# Altium footprint library ZERORULERV2.PcbLib: 78 footprints (part 3 of 5)
Each footprint in its own frame and in the unit in brackets; x right, y up, seen from the top. Pads: shape width x height; smd on the part's side, far side on the other; paste and mask are expansions set on the pad; w line width, h text height; cw(c..) or ccw(c..) is an arc to the next point about the centre after c.
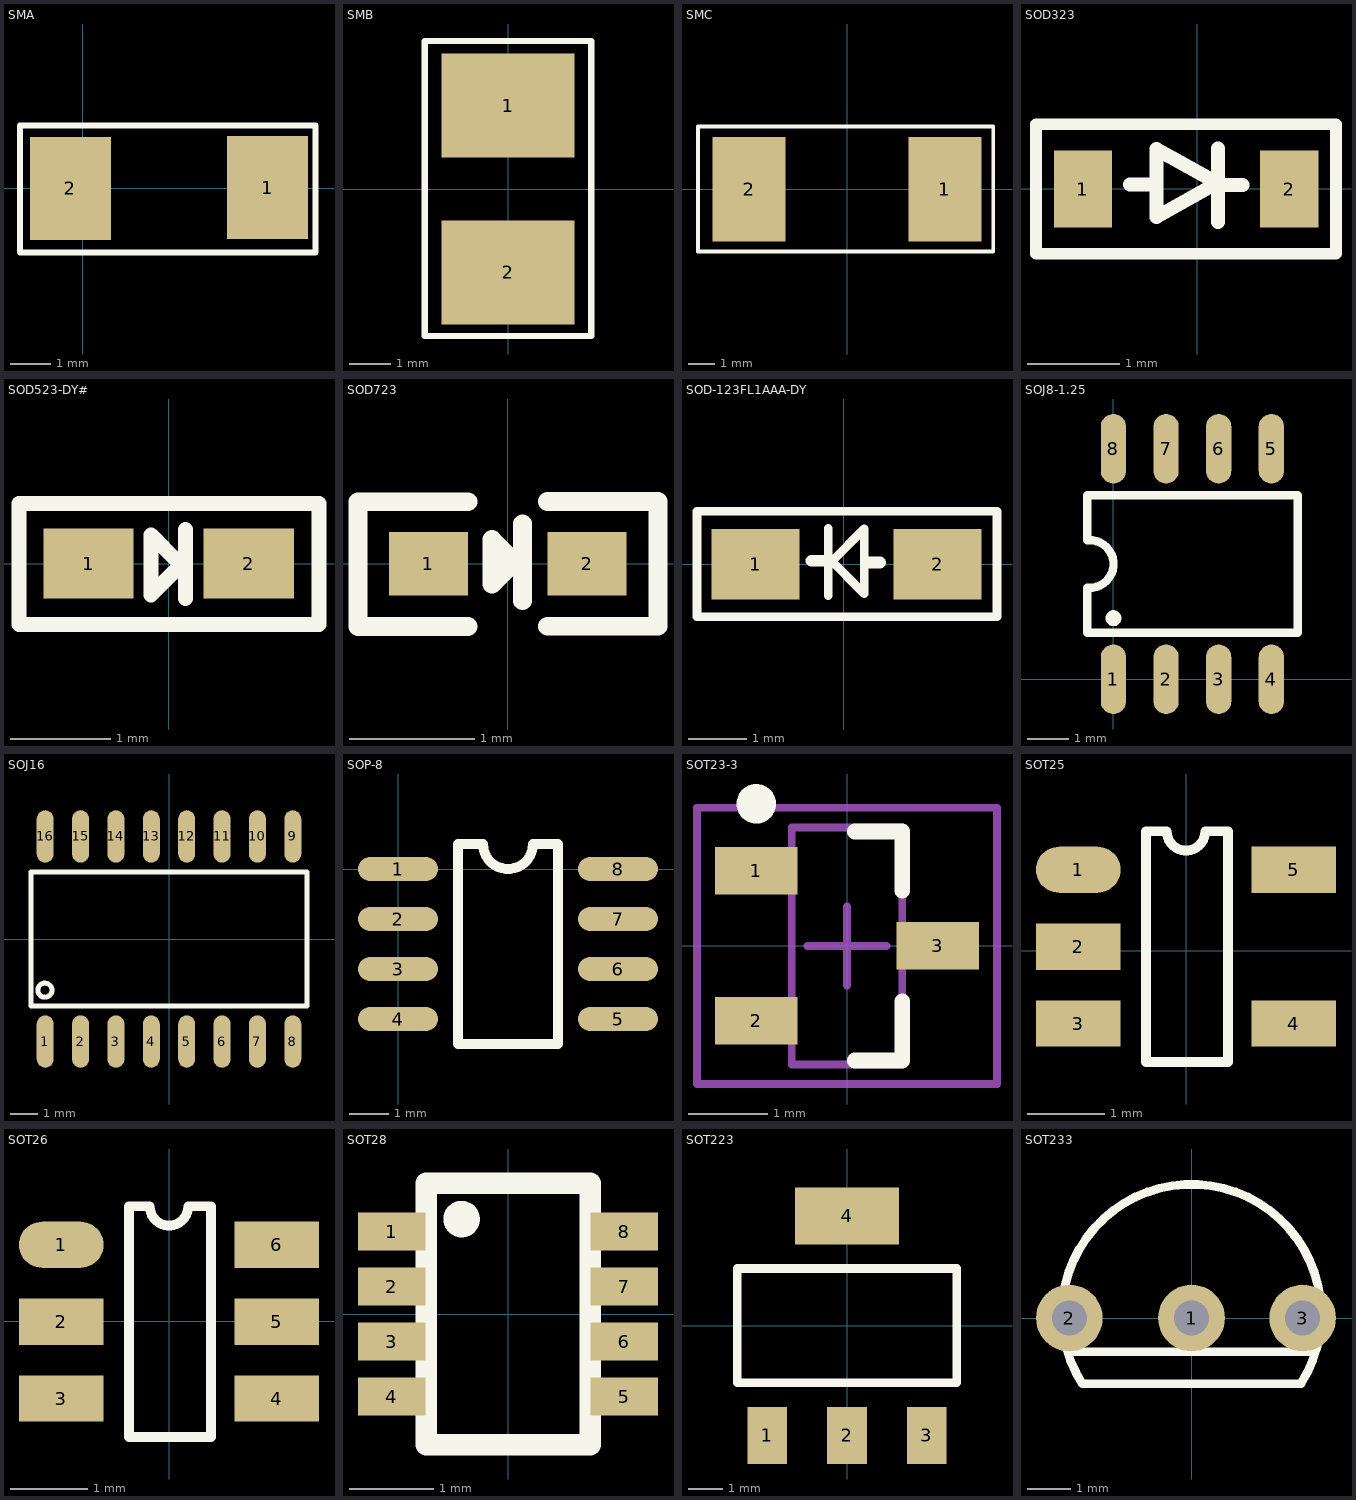
[diagram p2: the footprints below, top view; thin cyan lines are the x and y axes]

## SMA [mm]
height 2.2
pads (2):
  rect 2x2.54 smd: 1(4.562,0.022) 2(-0.297,0.001)
Top Overlay:
  lines w0.15: -1.539,-1.581 5.744,-1.581 5.744,1.552 -1.539,1.552 -1.539,-1.581

## SMB [mm]
pads (2):
  rect 3.2x2.5 smd: 1(0,2) 2(0,-2)
Top Overlay:
  lines w0.15: -2,-3.529 2,-3.529 2,3.552 -2,3.552 -2,-3.529

## SMC [mm]
pads (2):
  rect 2.8x4 smd: 1(3.746,0) 2(-3.746,0)
Top Overlay:
  lines w0.15: -5.703,-2.397 5.602,-2.397 5.602,2.402 -5.703,2.402 -5.703,-2.397

## SOD323 [mm]
height 1.2
pads (2):
  rect 0.63x0.83 smd: 1(-1.235,-0.001) 2(0.995,-0.001)
Top Overlay:
  lines w0.127: -1.742,-0.701 -1.742,0.699 1.499,0.699 1.499,-0.701 -1.742,-0.701
  lines w0.15: -0.726,0.048 -0.515,0.048 ; -0.442,0.429 0.213,0.066 -0.442,-0.302 -0.442,0.433 ; 0.223,-0.356 0.223,0.439 ; 0.288,0.04 0.487,0.04

## SOD523-DY# [mm]
pads (2):
  rect 0.9x0.7 smd: 1(-0.8,0) 2(0.8,0)
Top Overlay:
  lines w0.15: 0.086,0.024 -0.175,0.286 -0.175,-0.311 0.116,-0.019 ; 0.167,-0.348 0.167,0.341 ; -1.495,-0.606 1.502,-0.606 1.502,-0.606 1.502,0.6 1.502,0.6 -1.495,0.6 ; -1.495,-0.606 -1.495,-0.606 ; -1.495,-0.606 -1.495,0.6 ; -1.495,0.6 -1.495,0.6

## SOD723 [mil]
pads (2):
  rect 25x20 smd: 1(-25,0) 2(25,0)
Top Overlay:
  lines w5.91: -12.5,-19.76 -47.22,-19.76 -47.22,19.64 -12.5,19.64 ; 2.28,0.44 -4.97,7.7 -4.97,-6.35 4.15,2.77 ; 4.67,-11.61 4.67,12.66 ; 12.5,-19.69 47.38,-19.69 47.38,19.72 12.5,19.72

## SOD-123FL1AAA-DY [mm]
pads (2):
  rect 1.5x1.2 smd: 1(-1.5,0) 2(1.6,0)
Top Overlay:
  lines w0.15: -0.267,0.112 0.35,-0.505 0.35,0.6 -0.206,0.044 ; -0.263,-0.533 -0.263,0.612 ; -2.5,-0.898 -2.5,0.901 2.607,0.901 2.611,0.897 2.611,-0.894 2.607,-0.898 -2.5,-0.898
  lines w0.2: -0.552,0.055 -0.337,0.055 ; 0.415,0.029 0.618,0.029

## SOJ8-1.25 [mil]
pads (8):
  oval 24x66 smd: 1(0,0) 2(50,0) 3(100,0) 4(150,0) 5(150,219) 6(100,219) 7(50,219) 8(0,219)
Top Overlay:
  circle w8: c0,58 r3.61
  lines w8: -25,44 175,44 175,175 -25,175 -25,132 -20,132 cw(c-22.48,109.5) -20,87 -25,87 -25,44

## SOJ16 [mil]
pads (16):
  oval 24x74 smd: 1(-175,-145) 2(-125,-145) 3(-75,-145) 4(-25,-145) 5(25,-145) 6(75,-145) 7(125,-145) 8(175,-145) 9(175,145) 10(125,145) 11(75,145) 12(25,145) 13(-25,145) 14(-75,145) 15(-125,145) 16(-175,145)
Top Overlay:
  circle w7: c-175.45,-72.35 r10
  lines w7: -195,-95 195,-95 195,95 -195,95 -195,-95

## SOP-8 [mil]
pads (8):
  oval 80x24 smd: 1(0,0) 2(0,-50) 3(0,-100) 4(0,-150) 5(220,-150) 6(220,-100) 7(220,-50) 8(220,0)
Top Overlay:
  lines w10: 60,-175 160,-175 160,25 135,25 cw(c110,25) 85,25 60,25 60,-175

## SOT23-3 [mm] "SOT23, 3-Leads, Body 3.0x2.5mm (max), Pitch 0.95mm, IPC Medium Density"
height 1.1
pads (3):
  rect 1.05x0.6 smd: 1(-1.15,0.95) 2(-1.15,-0.95) 3(1.15,0)
Top Overlay:
  circle w0.25: c-1.15,1.8 r0.125
  lines w0.2: 0.1,-1.45 0.7,-1.45 0.7,-0.7 ; 0.1,1.45 0.7,1.45 0.7,0.7
Mechanical 4:
  lines w0.1: -1.9,-1.75 -1.9,1.75 1.9,1.75 1.9,-1.75 -1.9,-1.75
Mechanical 13:
  lines w0.1: -0.7,-1.5 -0.7,1.5 0.7,1.5 0.7,-1.5 -0.7,-1.5
Mechanical 15:
  lines w0.1: -0.5,0 0.5,0 ; 0,-0.5 0,0.5 ; -1.9,-1.75 1.9,-1.75 1.9,1.75 -1.9,1.75 -1.9,-1.75
3D body "SOT23-3.STEP": height 1, standoff 0, extent -1.2,-1.45 1.2,1.45

## SOT25 [mm]
pads (5):
  oval 1.1x0.6 smd: 1(-1.4,1.052)
  rect 1.1x0.6 smd: 2(-1.4,0.052) 3(-1.4,-0.948) 4(1.4,-0.948) 5(1.4,1.052)
Top Overlay:
  lines w0.127: -0.521,-1.448 0.547,-1.448 0.547,1.552 0.25,1.552 cw(c0,1.552) -0.25,1.552 -0.521,1.552 -0.521,-1.448

## SOT26 [mm]
height 1.2
pads (6):
  oval 1.1x0.6 smd: 1(-1.4,0.996)
  rect 1.1x0.6 smd: 2(-1.4,-0.004) 3(-1.4,-1.004) 4(1.4,-1.004) 5(1.4,-0.004) 6(1.4,0.996)
Top Overlay:
  lines w0.127: -0.521,-1.504 0.547,-1.504 0.547,1.496 0.25,1.496 cw(c0,1.496) -0.25,1.496 -0.521,1.496 -0.521,-1.504

## SOT28 [mm]
height 1.45
pads (8):
  rect 0.8x0.45 smd: 1(-1.375,0.975) 2(-1.375,0.325) 3(-1.375,-0.325) 4(-1.375,-0.975) 5(1.375,-0.975) 6(1.375,-0.325) 7(1.375,0.325) 8(1.375,0.975)
Top Overlay:
  circle w0.254: c-0.55,1.125 r0.09
  lines w0.254: -0.967,-1.547 0.971,-1.547 0.971,1.55 -0.967,1.55 -0.967,-1.547

## SOT223 [mil]
pads (4):
  rect 45x65 smd: 1(-91,-125) 2(0,-125) 3(91,-125)
  rect 118x65 smd: 4(0,125)
Top Overlay:
  lines w10: -125,-65 -125,65 125,65 125,-65 -125,-65

## SOT233 [mil]
pads (3):
  round 60 hole 31.5: 1(0,0) 2(-110,0) 3(100,0)
Top Overlay:
  lines w7.87: -111.42,-30.32 111.42,-30.32 ; -98.43,-59.06 cw(c0,3.65) 98.43,-59.06 -98.43,-59.06